# Altium schematic symbol library SCH - INTERFACE - WCH CH347F.SchLib: 1 symbol
Pins are listed as number, name and electrical type; pins without a type are passive.

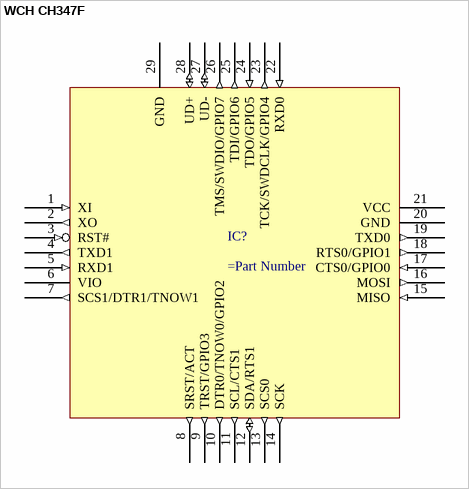
[diagram p0: symbol WCH CH347F]

## WCH CH347F
designator IC?
pins: 1 XI (in), 2 XO (out), 3 RST# (in), 4 TXD1 (out), 5 RXD1 (in), 6 VIO (power), 7 SCS1/DTR1/TNOW1 (out), 8 SRST/ACT (out), 9 TRST/GPIO3 (out), 10 DTR0/TNOW0/GPIO2 (out), 11 SCL/CTS1 (out), 12 SDA/RTS1 (io), 13 SCS0 (out), 14 SCK (out), 15 MISO (in), 16 MOSI (out), 17 CTS0/GPIO0 (in), 18 RTS0/GPIO1 (out), 19 TXD0 (out), 20 GND (power), 21 VCC (power), 22 RXD0 (in), 23 TCK/SWDCLK/GPIO4 (out), 24 TDO/GPIO5 (in), 25 TDI/GPIO6 (out), 26 TMS/SWDIO/GPIO7 (out), 27 UD- (io), 28 UD+ (io), 29 GND (power)